# Altium schematic symbol library Transistors.SchLib: 14 symbols
Pins are listed as number, name and electrical type; pins without a type are passive.

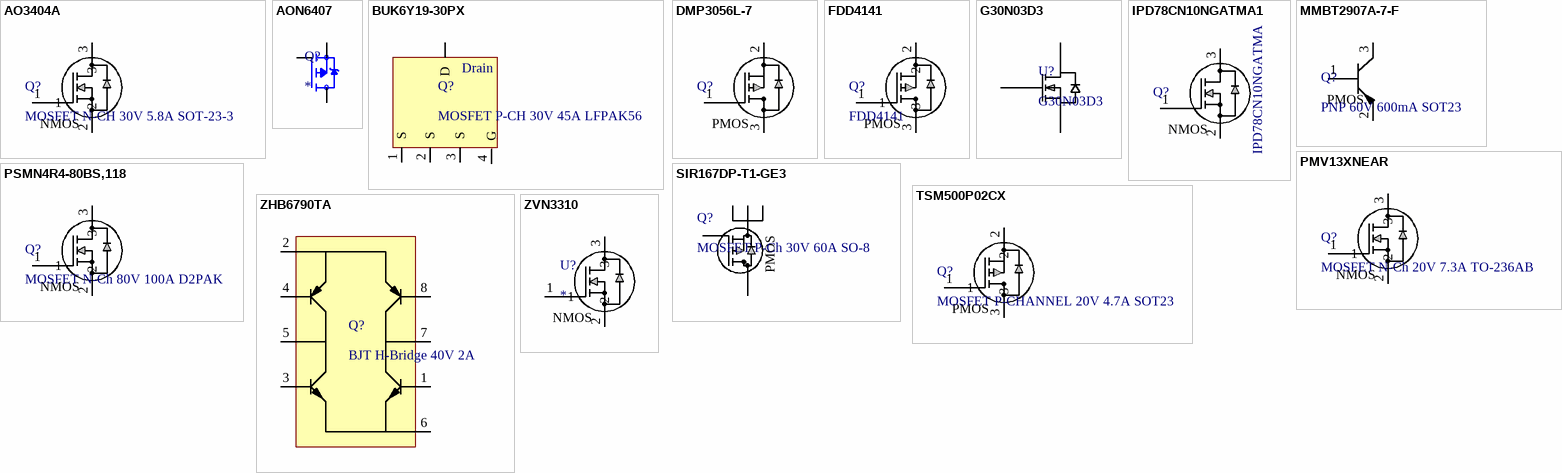
[diagram p0: symbols AO3404A to ZVN3310]

## AO3404A
designator Q?, comment MOSFET N-CH 30V 5.8A SOT-23-3
N-Channel 30 V 5.8A (Ta) 1.4W (Ta) Surface Mount SOT-23-3; Manufacturer _Part_Number: AO3404A; Vendor: Alpha & Omega Semiconductor Inc.; SourceLibrary: ON_Semiconductor_2020-01-13; Vgs (Max): 3V @ 5.8A, 10V; Vgs (th): 3V @ 250µA; Rds (on): 28mOhm @ 5.8A, 10V; Amp Rating: 5.8 A; FET Type: N-Channel; Package: SOT23-3L; Vdss: 30V; Power Dissipation: 1.4W (Ta); Supplier 1: Digi-Key; Supplier Part Number 1: 785-1004-1-ND; Created By: Dylan T
footprint SOT-23-3
pins: 1, 2, 3
text: NMOS

## AON6407
designator Q?
P-Channel 30V 32A (Ta), 85A (Tc) 7.3W (Ta), 83W (Tc) Surface Mount 8-DFN (5x6); MP: AON6407; MF: Alpha &; SnapEDA_Link: https://www.snapeda.com/parts/AON6407/Alpha%20&%20Omega%20Semiconductor%20Inc./view-part/2658357/?ref=snap; Value: *; Digi-Key_Part_Number: 785-1421-1-ND; Check_prices: https://www.snapeda.com/parts/AON6407/Alpha%20&%20Omega%20Semiconductor%20Inc./view-part/2658357/?ref=eda; Package: DFN-8 Alpha &amp; Omega Semiconductor; Supplier 1: Digikey; Supplier Part Number 1: 785-1421-1-ND
footprint TRANS_AON6407
pins: 1 S, 2 S, 3 S, 4 G, 5_8 D

## BUK6Y19-30PX
designator Q?, comment MOSFET P-CH 30V 45A LFPAK56
P-Channel 30 V 45A (Ta) 66W (Ta) Surface Mount LFPAK56, Power-SO8; Supplier 1: Mouser; Supplier Part Number 1: 771-BUK6Y19-30PX
footprint TRANS_PSMN5R5-60YS,115
pins: 1 S, 2 S, 3 S, 4 G, 5 D
text: Drain

## DMP3056L-7
designator Q?  (value not drawn)
P-Channel 30V 4.3A (Ta) 1.38W (Ta) Surface Mount SOT23; Reviewed By: ---; VDSS (Max): -30V; Vgss (Max): +-25V; Id: -4.3A; Created By: John Ulm; Supplier 1: Digi-Key; Supplier Part Number 1: DMP3056L-7DICT-ND
footprint SOT-23-3 (Footprint not found)
pins: 1, 2, 3
text: PMOS

## FDD4141
designator Q?
P-Channel 10.8A (Ta), 50A (Tc) 2.4W (Ta), 69W (Tc) Surface Mount D-PAK (TO-252AA); FET Type: P-Channel, Power; Vendor: ON Semiconductor; SourceLibrary: ON_Semiconductor_2020-01-13; Vgs (Max): ±20V; Vgs (th): 3V @ 250µA; Vdss: 40 V; Rds (on): 12.3mOhm @ 12.7A, 10V; Amp Rating: 10.8 A; Package: D-PAK (TO-252AA); Manufacturer_Part_Number: FDD4141; Power Dissipation: 2.4W (Ta), 69W (Tc); Supplier 1: Digi-Key; Supplier Part Number 1: FDD4141CT-ND; Created By: Dylan T
footprint DPAK_ONS
pins: 1, 2, 3
text: PMOS

## G30N03D3
designator U?
N-Channel 30 V 30A 24W Surface Mount 8-DFN (3.15x3.05); Mfr_Name: Goford Semiconductor; VALUE_2: Value; Type: DEV; RefDes: RefDes; Copyright: Copyright (C) 2023 Ultra Librarian. All rights reserved.; Manufacturer_Part_Number: G30N03D3; Supplier 1: Digi-Key; Supplier Part Number 1: 3141-G30N03D3CT-ND
footprint DNH0008A_NV
pins: 1 S, 2 S, 3 S, 4 G, 5 D, 6 D, 7 D, 8 D, 9 D

## IPD78CN10NGATMA1
designator Q?, comment MOSFET N-Ch 100V 13A TO252-3  (value not drawn)
N-Channel 100 V 13A (Tc) 31W (Tc) Surface Mount PG-TO252-3; Vg(th): 2V<4V; Created By: John Ulm; Verified By: ----; Supplier 1: Digi-Key; VDS: 100V; Continuous drain current: 13A; Supplier Part Number 1: IPD78CN10NGATMA1CT-ND
footprint DPAK_ONS
pins: 1, 2, 3
text: NMOS; IPD78CN10NGATMA

## MMBT2907A-7-F
designator Q?, comment PNP 60V 600mA SOT23
PNP 60 V 600mA Surface Mount SOT-23; Manufacturer_Part_Number: MMBT2907A-7-F; Vendor: Digikey; Vgs (Max): ±10V; Vgs (th): 800mV @ 250µA; Vdss: 20 V; Power Dissipation: 1.56W (Tc); Rds (on): 50mOhm @ 3A, 4.5V; Amp Rating: 600mA; BJT Type: PNP; Package: TO-236-3, SC-59, SOT-23-3; Created By: Robert Pafford; ComponentLink1Description: Datasheet; ComponentLink1URL: https://media.digikey.com/pdf/Data%20Sheets/Diodes%20PDFs/MMBT2907A_Rev2016.pdf; Supplier 1: Digi-Key; Supplier Part Number 1: MMBT2907A-FDICT-ND
footprint SOT-23-3
pins: 1, 2, 3
text: PMOS

## PMV13XNEAR
designator Q?, comment MOSFET N-Ch 20V 7.3A TO-236AB
N-Channel 20 V 7.3A (Ta) 610mW (Ta), 8.3W (Tc) Surface Mount TO-236AB; Manufacturer _Part_Number: PMV13XNEAR; Vendor: Nexperia USA Inc.; SourceLibrary: ON_Semiconductor_2020-01-13; Vgs (Max): +/- 12 V; Vgs (th): 1.3V @ 250uA; Rds (on): 15mOhm @ 7.3A, 8V; Amp Rating: 7.3 A; FET Type: N-Channel; Package: SOT23-3L; Vdss: 20 V; Power Dissipation: 610mW (Ta), 8.3W (Tc); Created By: Dylan T; Supplier 1: Mouser; Supplier Part Number 1: 771-PMV13XNEAR
footprint SOT-23-3
pins: 1, 2, 3
text: NMOS

## PSMN4R4-80BS,118
designator Q?, comment MOSFET N-Ch 80V 100A D2PAK
N-Channel 80V 100A (Ta) 306W (Ta), Surface Mount D2PAK; Manufacturer _Part_Number: PSMN4R4-80BS,118; Vendor: Nexperia USA Inc.; Vgs (Max): +/- 20 V; Vgs (th): 3V; Rds (on): 3.8mOhm @ 25A, 10Vgs; Amp Rating: 100A; FET Type: N-Channel; Package: D2PAK; Vdss: 80 V; Power Dissipation: 306W; Created By: Flip B; Supplier 1: Digi-Key; Supplier Part Number 1: 1727-7123-1-ND
footprint D2PAK (D2PAK (TO-263-3))
pins: 1, 2, 3
text: NMOS

## SIR167DP-T1-GE3
designator Q?, comment MOSFET P-Ch 30V 60A SO-8
P-Channel 30 V 60A (Tc) 65.8W (Tc) Surface Mount PowerPAK® SO-8; Mfr_Name: Vishay; Manufacturer_Part_Number: SIR167DP-T1-GE3; Type: DEV; Copyright: Copyright (C) 2022 Ultra Librarian. All rights reserved.; RefDes: RefDes; Supplier 1: Mouser; Supplier Part Number 1: 78-SIR167DP-T1-GE3
footprint MOSFET_7DP-T1-GE3_VIS
pins: 1 S, 2 S, 3 S, 4 G, D
text: PMOS

## TSM500P02CX
designator Q?, comment MOSFET P-CHANNEL 20V 4.7A SOT23
P-Channel 20 V 4.7A (Tc) 1.56W (Tc) Surface Mount SOT-23; Manufacturer_Part_Number: TSM500P02CX; Vendor: Taiwan Semiconductor Corporation; Vgs (Max): ±10V; Vgs (th): 800mV @ 250µA; Rds (on): 50mOhm @ 3A, 4.5V; Amp Rating: 4.7 A; FET Type: P-Channel; Package: TO-236-3, SC-59, SOT-23-3; Vdss: 20 V; Power Dissipation: 1.56W (Tc); Created By: Robert Pafford; Supplier 1: Digi-Key; Supplier Part Number 1: TSM500P02CXRFGCT-ND
footprint SOT-23-3
pins: 1, 2, 3
text: PMOS

## ZHB6790TA
designator Q?, comment BJT H-Bridge 40V 2A
TRANS 2NPN/2PNP 40V 2A SM8; Voltage - CE Breakdown: 40V; Supplier 1: Digikey; Supplier Part Number 1: ZHB6790CT-ND; Current - Collector (IC) (Max): 2A; Package: SOT-223-8
footprint SOT-223-8
pins: 1 B3, 2 E1, E4, 3 B2, 4 B1, 5 C1, C2, 6 E2, E3, 7 C3, C4, 8 B4

## ZVN3310
designator U?
MOSFET N-CH 100V 100MA SOT23-3
footprint SOT-23-3
pins: 1, 2, 3
text: NMOS